# EAGLE library part M25P16 (library OPLLib)
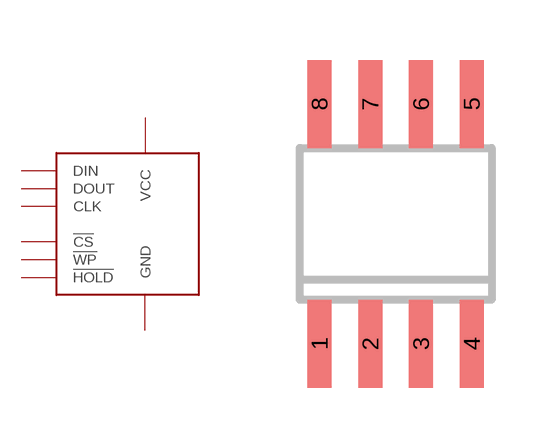
[diagram p5: symbol with the pads of SOIC8; footprint SOIC8]

Designator prefix U

## M25P16-VMN6P  [SOIC8]
1  !CS  in
2  DOUT  out
3  !WP  in
4  GND  pwr
5  DIN  in
6  CLK  in
7  !HOLD  in
8  VCC  pwr

## Footprint SOIC8 (pad centres in mm)
SMALL OUTLINE INTEGRATED CIRCUIT
smd 0.6 x 2.2: 1 -1.905,-3; 2 -0.635,-3; 3 0.635,-3; 4 1.905,-3; 5 1.905,3; 6 0.635,3; 7 -0.635,3; 8 -1.905,3